# Altium footprint library MC-IMX6UL-DK v1.1.PcbLib: 48 footprints (part 3 of 3)
Each footprint in its own frame and in the unit in brackets; x right, y up, seen from the top. Pads: shape width x height; smd on the part's side, far side on the other; paste and mask are expansions set on the pad; w line width, h text height; cw(c..) or ccw(c..) is an arc to the next point about the centre after c.
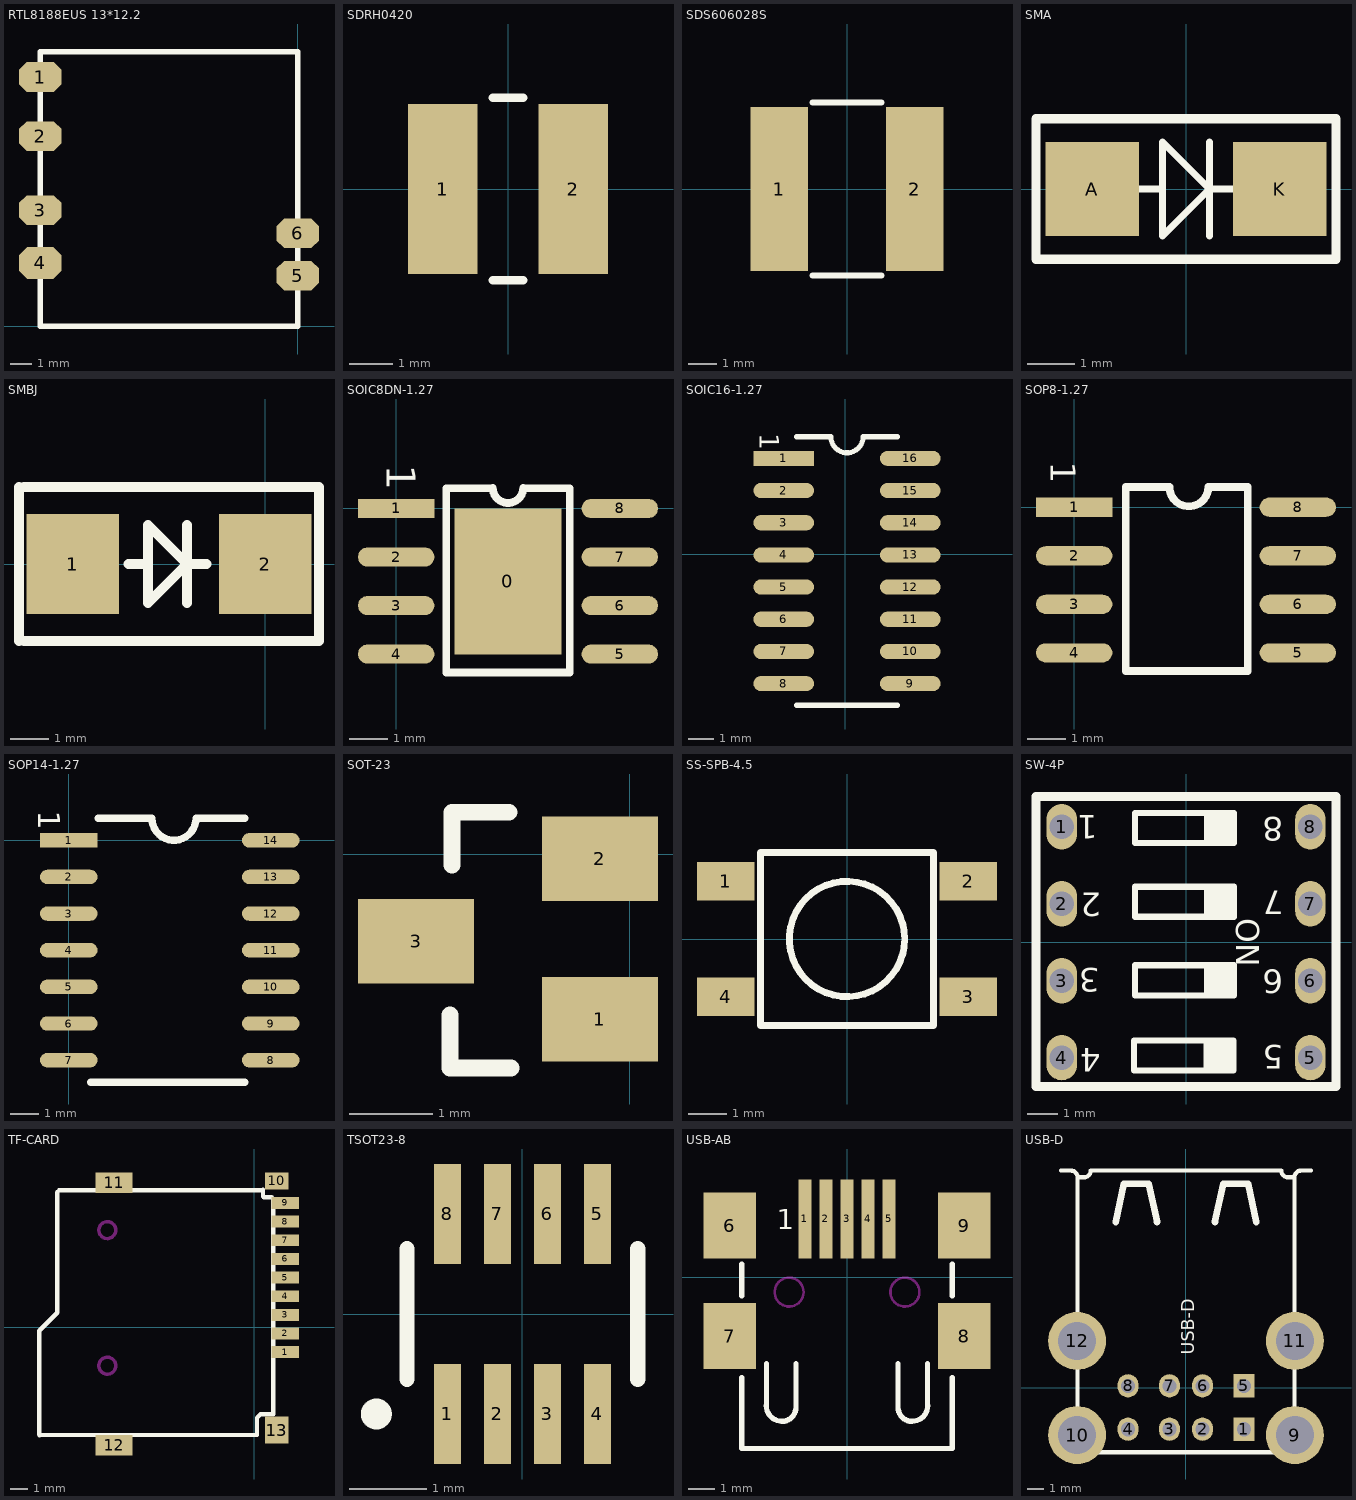
[diagram p2: the footprints below, top view; thin cyan lines are the x and y axes]

## RTL8188EUS 13*12.2 [mm]
pads (6):
  oct 2x1.4 smd: 1(-12.2,11.8) 2(-12.2,9) 3(-12.2,5.5) 5(0,2.4) 6(0,4.4)
  oct 2x1.5 smd: 4(-12.2,3)
Top Overlay:
  lines w0.254: -12.2,0 0,0 0,13 -12.2,13 -12.2,0

## SDRH0420 [mm]
pads (2):
  rect 1.6x3.9 smd: 1(-1.5,0) 2(1.5,0)
Top Overlay:
  lines w0.2: -0.35,-2.1 0.35,-2.1 ; -0.35,2.1 0.35,2.1

## SDS606028S [mm]
pads (2):
  rect 2x5.7 smd: 1(-2.35,0) 2(2.35,0)
Top Overlay:
  lines w0.2: -1.2,-3 1.2,-3 ; -1.2,3 1.2,3

## SMA [mm]
pads (2):
  rect 2x2 smd: A(-2,0) K(2,0)
Top Overlay:
  lines w0.15: -1,0 -0.5,0 ; 0.5,-1 0.5,1 ; 1,0 0.5,0 ; 0.5,0 -0.5,1 -0.5,-1 0.5,0
  lines w0.2: -3.2,-1.5 -3.2,1.5 3.2,1.5 3.2,-1.5 -3.2,-1.5

## SMBJ [mm]
pads (2):
  rect 2.4x2.6 smd: 1(-5,0) 2(0,0)
Top Overlay:
  lines w0.254: -6.4,-2 -6.4,2 ; -6.277,-2 1.4,-2 1.4,2 -6.277,2 ; -3.556,0 -3.048,0 ; -2.032,-1.016 -2.032,1.016 ; -1.524,0 -2.032,0 ; -2.032,0 -3.048,-1.016 -3.048,1.016 -2.032,0

## SOIC8DN-1.27 [mm]
pads (9):
  rect 2.8x3.82 smd: 0(2.925,-1.905)
  rect 2x0.5 smd: 1(0,0)
  oval 2x0.5 smd: 2(0,-1.27) 3(0,-2.54) 4(0,-3.81) 5(5.85,-3.81) 6(5.85,-2.54) 7(5.85,-1.27) 8(5.85,0)
Top Overlay:
  lines w0.203: 1.311,-4.289 1.311,0.529 ; 1.346,-4.289 4.539,-4.289 4.539,0.529 3.325,0.529 ; 1.346,0.529 2.525,0.529 ; 2.525,0.545 ccw(c2.925,0.545) 3.325,0.545
  text "1" at -0.254,1.143 h0.76

## SOIC16-1.27 [mm]
pads (16):
  rect 2.4x0.6 smd: 1(-2.432,3.787)
  oval 2.4x0.6 smd: 2(-2.432,2.517) 3(-2.432,1.247) 4(-2.432,-0.023) 5(-2.432,-1.293) 6(-2.432,-2.563) 7(-2.432,-3.833) 8(-2.432,-5.103) 9(2.568,-5.103) 10(2.568,-3.833) 11(2.568,-2.563) 12(2.568,-1.293) 13(2.568,-0.023) 14(2.568,1.247) 15(2.568,2.517) 16(2.568,3.787)
Top Overlay:
  lines w0.2: -1.932,-5.958 2.068,-5.958 ; -1.932,4.642 -0.567,4.642 ccw(c0.068,4.642) 0.703,4.642 2.068,4.642
  text "1" at -3.372,4.777 h0.76

## SOP8-1.27 [mm]
pads (8):
  rect 2x0.5 smd: 1(0,0)
  oval 2x0.5 smd: 2(0,-1.27) 3(0,-2.54) 4(0,-3.81) 5(5.85,-3.81) 6(5.85,-2.54) 7(5.85,-1.27) 8(5.85,0)
Top Overlay:
  lines w0.203: 2.471,0.529 1.346,0.529 1.346,-4.289 4.539,-4.289 4.539,0.529 3.508,0.529 cw(c3,0.529) 2.492,0.529
  text "1" at -0.608,1.188 h0.65

## SOP14-1.27 [mm]
pads (14):
  rect 2x0.5 smd: 1(0,0)
  oval 2x0.5 smd: 2(0,-1.27) 3(0,-2.54) 4(0,-3.81) 5(0,-5.08) 6(0,-6.35) 7(0,-7.62) 8(7,-7.62) 9(7,-6.35) 10(7,-5.08) 11(7,-3.81) 12(7,-2.54) 13(7,-1.27) 14(7,0)
Top Overlay:
  lines w0.254: 0.762,-8.382 1.905,-8.382 5.461,-8.382 6.096,-8.382 ; 1.016,0.762 1.905,0.762 ; 1.865,0.762 2.881,0.762 ccw(c3.643,0.762) 4.405,0.762 5.421,0.762 ; 5.461,0.762 6.096,0.762
  text "1" at -1.056,1.016 h0.76

## SOT-23 [mil]
pads (3):
  rect 55x40 smd: 1(-14.05,-78.06) 2(-14.05,-2.06) 3(-101.05,-41.06)
Top Overlay:
  lines w8: -85.05,-76.06 -85.05,-101.06 -56.05,-101.06 ; -84.05,-5.06 -84.05,18.94 ; -84.05,19.94 -57.05,19.94

## SS-SPB-4.5 [mm]
pads (4):
  rect 1.5x1 smd: 1(-3.15,1.5) 2(3.15,1.5) 3(3.15,-1.5) 4(-3.15,-1.5)
Top Overlay:
  circle w0.178: c0,0 r1.5
  lines w0.178: -2.25,-2.25 2.25,-2.25 2.25,2.25 -2.25,2.25 -2.25,-2.25

## SW-4P [mm]
pads (8):
  oval 1x1.5 / inner round 1.524 / far side oval 1x1.5 hole 0.8: 1(-4.102,3.81) 2(-4.102,1.27) 3(-4.102,-1.27) 4(-4.102,-3.81) 5(4.102,-3.81) 6(4.102,-1.27) 7(4.102,1.27) 8(4.102,3.81)
Top Overlay:
  lines w0.2: 0.673,-3.251 0.673,-4.216 0.851,-4.216 0.851,-3.353 0.953,-3.353 0.953,-4.216 1.105,-4.216 1.105,-3.302 1.257,-3.302 1.257,-4.14 1.562,-4.14 1.562,-3.251 ; 0.699,-0.762 0.699,-1.727 0.876,-1.727 0.876,-0.864 0.978,-0.864 0.978,-1.727 1.13,-1.727 1.13,-0.813 1.283,-0.813 1.283,-1.651 1.587,-1.651 1.587,-0.762 ; 0.699,1.829 0.699,0.864 0.876,0.864 0.876,1.727 0.978,1.727 0.978,0.864 1.13,0.864 1.13,1.778 1.283,1.778 1.283,0.94 1.587,0.94 1.587,1.829 ; 0.699,4.267 0.699,3.302 0.876,3.302 0.876,4.166 0.978,4.166 0.978,3.302 1.13,3.302 1.13,4.216 1.283,4.216 1.283,3.378 1.587,3.378 1.587,4.267 ; 1.41,-4.115 1.359,-4.115 1.359,-3.251 1.562,-3.251 ; 1.435,-1.626 1.384,-1.626 1.384,-0.762 1.587,-0.762 ; 1.435,0.965 1.384,0.965 1.384,1.829 1.587,1.829 ; 1.435,3.404 1.384,3.404 1.384,4.267 1.587,4.267 ; 1.562,-3.251 -1.714,-3.251 -1.714,-4.242 1.562,-4.242 1.562,-3.251 ; 1.587,-0.762 1.587,-1.753 -1.689,-1.753 -1.689,-0.762 1.587,-0.762 ; 1.587,1.829 1.587,0.838 -1.689,0.838 -1.689,1.829 1.587,1.829 ; 1.587,4.267 1.587,3.277 -1.689,3.277 -1.689,4.267 1.587,4.267
  lines w0.3: -4.952,-4.769 -4.952,4.81 4.948,4.81 4.948,-4.769 -4.952,-4.769
  text "2" at -2.794,1.626 h0.79
  text "4" at -2.819,-3.505 h0.79
  text "3" at -2.845,-0.864 h0.79
  text "1" at -2.921,4.191 h0.79
  text "6" at 3.2,-0.914 h0.79
  text "8" at 3.2,4.115 h0.79
  text "5" at 3.2,-3.404 h0.79
  text "7" at 3.226,1.702 h0.79
  text "ON" at 1.651,0.787 h0.76

## TF-CARD [mm]
pads (13):
  rect 1.6x0.7 smd: 1(1.82,-1.466) 2(1.82,-0.366) 3(1.82,0.734) 4(1.82,1.834) 5(1.82,2.934) 6(1.82,4.034) 7(1.82,5.134) 8(1.82,6.234) 9(1.82,7.334)
  rect 1.4x1 smd: 10(1.32,8.634)
  rect 2.2x1.2 smd: 11(-8.28,8.534) 12(-8.28,-6.966)
  rect 1.4x1.6 smd: 13(1.32,-6.066)
Top Overlay:
  lines w0.254: -12.7,-6.346 -12.7,-0.203 -11.633,0.864 -11.633,7.976 -11.532,8.077 0.457,8.077 0.508,8.128 0.508,7.722 0.559,7.671 1.016,7.671 1.118,7.569 1.118,-5.131 0.356,-5.131 0.152,-5.334 0.152,-6.35 -12.68,-6.366
Keep-Out Layer:
  circle w0.203: c-8.68,-2.266 r0.5
  circle w0.203: c-8.68,5.734 r0.5

## TSOT23-8 [mm]
pads (8):
  rect 0.35x1.3 smd: 1(-0.975,-1.3) 2(-0.325,-1.3) 3(0.325,-1.3) 4(0.975,-1.3) 5(0.975,1.3) 6(0.325,1.3) 7(-0.325,1.3) 8(-0.975,1.3)
Top Overlay:
  circle w0.203: c-1.9,-1.3 r0.1
  lines w0.2: -1.5,-0.85 -1.5,0.85 ; 1.5,-0.85 1.5,0.85

## USB-AB [mm]
pads (9):
  rect 0.5x3 smd: 1(-1.6,2.225) 2(-0.8,2.225) 3(0,2.225) 4(0.8,2.225) 5(1.6,2.225)
  rect 2x2.5 smd: 6(-4.45,1.975) 7(-4.45,-2.225) 8(4.45,-2.225) 9(4.45,1.975)
Top Overlay:
  lines w0.2: -4,-3.8 -4,-6.5 4,-6.5 4,-3.8 ; -4,-0.7 -4,0.5 ; -3.065,-4.87 ccw(c-2.475,-4.87) -2.475,-5.46 ; -3.06,-4.87 -3.06,-3.265 ; -2.475,-5.465 -2.47,-5.465 ccw(c-2.47,-4.935) -1.94,-4.935 ; -1.94,-4.865 -1.94,-4.935 ; -1.94,-3.265 -1.94,-4.935 ; 1.94,-4.865 1.94,-4.935 ; 1.94,-3.265 1.94,-4.935 ; 3.06,-4.864 3.06,-3.265 ; 3.071,-4.864 cw(c2.47,-4.864) 2.47,-5.465 cw(c2.47,-4.935) 1.94,-4.935 ; 4,-0.7 4,0.5
  text "1" at -2.667,1.829 h0.76
Keep-Out Layer:
  circle w0.1: c-2.2,-0.555 r0.55
  circle w0.1: c2.2,-0.555 r0.55

## USB-D [mm]
pads (12):
  rect 1.27x1.4 hole 0.85: 1(3.5,-2.49) 5(3.5,0.13)
  oval 1.27x1.4 hole 0.85: 2(1,-2.49) 3(-1,-2.49) 4(-3.5,-2.49) 6(1,0.13) 7(-1,0.13) 8(-3.5,0.13)
  round 3.5 hole 2.3: 9(6.57,-2.84) 10(-6.57,-2.84) 11(6.57,2.84) 12(-6.57,2.84)
Top Overlay:
  lines w0.254: -7.55,13.12 -6.95,13.12 cw(c-6.95,12.72) -6.55,12.72 ; -6.55,-3.88 -6.55,12.72 ; -6.5,-3.88 6.6,-3.88 ; 6.55,-3.88 6.55,12.72 ; 6.85,13.12 7.55,13.12 ; 6.95,13.12 ccw(c6.95,12.72) 6.55,12.72 ; -6.55,12.72 -6.15,12.72 ccw(c-6.15,13.12) -5.75,13.12 5.75,13.12 ccw(c6.15,13.12) 6.15,12.72 6.55,12.72
  lines w0.4: -4.25,10.02 -3.75,12.32 -2.25,12.32 -1.75,10.02 ; 1.75,10.02 2.25,12.32 3.75,12.32 4.25,10.02
  text "USB-D" at 0.5,2.01 h0.76